# Altium footprint library LIB_PRESSURE.PcbLib: 6 footprints
Each footprint in its own frame and in the unit in brackets; x right, y up, seen from the top. Pads: shape width x height; smd on the part's side, far side on the other; paste and mask are expansions set on the pad; w line width, h text height; cw(c..) or ccw(c..) is an arc to the next point about the centre after c.
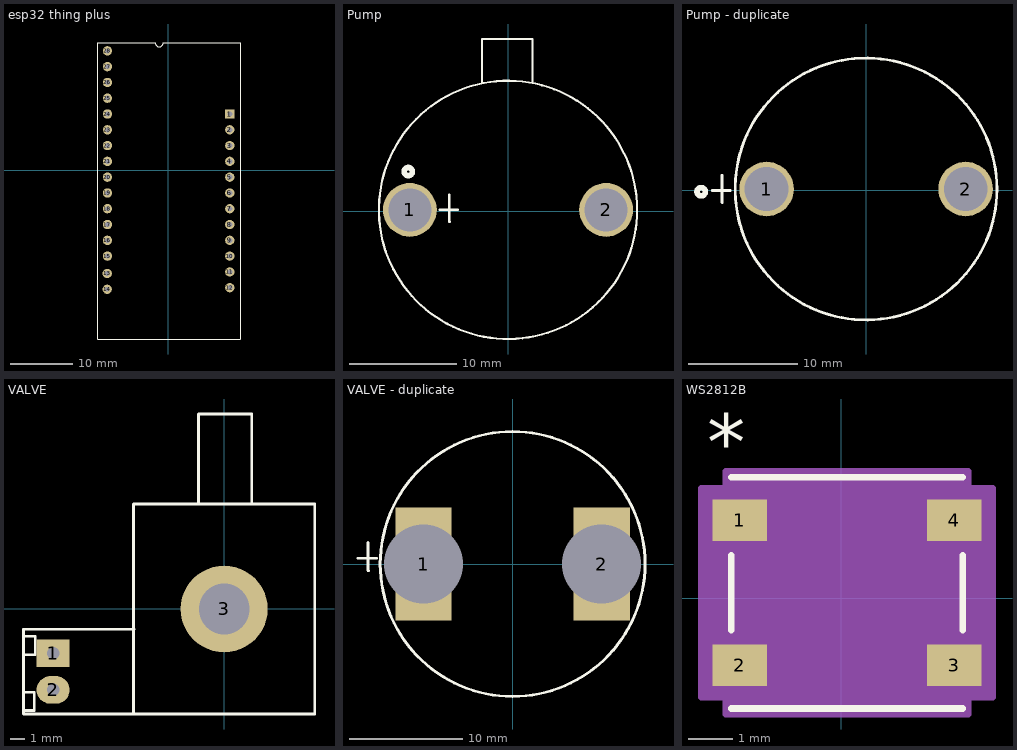
[diagram p0: the footprints below, top view; thin cyan lines are the x and y axes]

## esp32 thing plus [mm]
pads (28):
  rect 1.5x1.5 hole 0.8: 1(9.86,9.017)
  round 1.5 hole 0.8: 2(9.86,6.477) 3(9.86,3.937) 4(9.86,1.397) 5(9.86,-1.143) 6(9.86,-3.683) 7(9.86,-6.223) 8(9.86,-8.763) 9(9.86,-11.303) 10(9.86,-13.843) 11(9.86,-16.383) 12(9.86,-18.923) 13(-9.86,-16.637) 14(-9.86,-19.177) 15(-9.825,-13.843) 16(-9.825,-11.303) 17(-9.825,-8.763) 18(-9.825,-6.223) 19(-9.825,-3.683) 20(-9.825,-1.143) 21(-9.825,1.397) 22(-9.825,3.937) 23(-9.825,6.477) 24(-9.825,9.017) 25(-9.825,11.557) 26(-9.825,14.097) 27(-9.825,16.637) 28(-9.825,19.177)
Top Overlay:
  lines w0.2: -11.349,-27.178 11.511,-27.178 11.511,20.447 -0.854,20.447 cw(c-1.489,20.447) -2.124,20.447 -11.349,20.447 -11.349,-27.178
3D body "Sparkfun Thing Plus v8.step": height 10.12, standoff -5.47, extent -11.349,-27.119 11.511,31.945

## Pump [mm]
pads (2):
  round 5 hole 4: 1(-9.12,0.127) 2(9.12,0.127)
Top Overlay:
  circle w0.2: c0,0.127 r12
  lines w0.2: -2.413,11.938 -2.413,16.002 2.286,16.002 2.286,11.938
  lines w0.254: -6.35,0.127 -4.699,0.127 ; -5.461,1.524 -5.461,-0.918 ccw(c-5.369,-0.918) -5.434,-0.983
  lines w0.508: -9.652,3.692 cw(c-9.271,3.683) -9.652,3.683 cw(c-9.271,3.683) -8.89,3.683
Bottom Overlay:
  lines w0.508: -9.652,3.683 ccw(c-9.271,3.683) -8.89,3.683 ccw(c-9.271,3.683) -9.652,3.683

## Pump - duplicate [mm]
pads (2):
  round 5 hole 4: 1(-9.12,0.127) 2(9.12,0.127)
Top Overlay:
  circle w0.254: c0,0.127 r12
  lines w0.254: -14.097,0 -12.446,0 ; -13.208,1.397 -13.208,-1.045 ccw(c-13.116,-1.045) -13.181,-1.11
  lines w0.508: -15.494,-0.118 cw(c-15.113,-0.127) -15.494,-0.127 cw(c-15.113,-0.127) -14.732,-0.127
Bottom Overlay:
  lines w0.508: -15.494,-0.127 cw(c-15.113,-0.127) -14.732,-0.127 cw(c-15.113,-0.127) -15.494,-0.127

## VALVE [mil]
pads (3):
  rect 90x75 hole 34: 1(-465,-120)
  oval 90x75 hole 34: 2(-465,-220)
  round 236.22 hole 137.8 unplated: 3(0,0)
Top Overlay:
  lines w7: -546,-276 -516,-276 -516,-226 -546,-226 ; -544,-124 -514,-124 -514,-74 -544,-74
  lines w7.87: -245,-55 -545,-55 -545,-285.43 -246.06,-285.43 ; -70,285 -70,530 75,530 75,285 ; -246.06,-285.43 -246.06,285.43 246.06,285.43 246.06,-285.43 -246.06,-285.43
3D body "User Library-PCB HEADER (JST BxB-PH-K-S (VERTICAL)).STEP": height 236.22, standoff -75, extent -535,-288.11 -357.83,-51.89

## VALVE - duplicate [mm]
pads (2):
  rect 5x10 hole 7 square: 1(-7.9,0) 2(7.9,0)
Top Overlay:
  circle w0.254: c0,0 r11.75
  lines w0.254: -13.716,0.508 -12.065,0.508 ; -12.827,1.905 -12.827,-0.537 ccw(c-12.735,-0.537) -12.8,-0.602

## WS2812B [mil]
pads (4):
  rect 49x37 smd paste+0 mask+0: 1(-91,69.96) 2(-91,-59.96) 3(101,-59.96) 4(101,69.96)
Top Overlay:
  lines w6: -98.5,-98.5 108.5,-98.5 ; -98.5,-28.36 -98.5,38.36 ; -98.5,108.5 108.5,108.5 ; 108.5,-28.36 108.5,38.36
  text "*" at -120,115 h50
Mechanical 13:
  lines w0: -7,103.5 ccw(c5,103.5) 17,103.5
  lines w1: -101.5,-77.46 -93.5,-77.46 -93.5,-42.46 -101.5,-42.46 -101.5,-77.46 ; -101.5,52.46 -93.5,52.46 -93.5,87.46 -101.5,87.46 -101.5,52.46 ; -93.5,-93.5 -93.5,103.5 103.5,103.5 103.5,-93.5 -93.5,-93.5 ; 103.5,-77.46 111.5,-77.46 111.5,-42.46 103.5,-42.46 103.5,-77.46 ; 103.5,52.46 111.5,52.46 111.5,87.46 103.5,87.46 103.5,52.46
  text "*" at -83.5,56.96 h50
Mechanical 15:
  region: -103.5,-88.46 -125.5,-88.46 -125.5,98.46 -103.5,98.46 -103.5,113.5 113.5,113.5 113.5,98.46 135.5,98.46 135.5,-88.46 113.5,-88.46 113.5,-103.5 -103.5,-103.5
  lines w6: -125.5,-88.46 -103.5,-88.46 -103.5,-103.5 113.5,-103.5 113.5,-88.46 135.5,-88.46 135.5,98.46 113.5,98.46 113.5,113.5 -103.5,113.5 -103.5,98.46 -125.5,98.46 -125.5,-88.46
3D body "COM-16347_SPK.step": height 63.11, standoff 0.11, extent -101.5,-93.5 111.5,103.5